# Altium schematic symbol library SCH - DRIVER - LED - TI LM3444_D_8.SchLib: 1 symbol
Pins are listed as number, name and electrical type; pins without a type are passive.

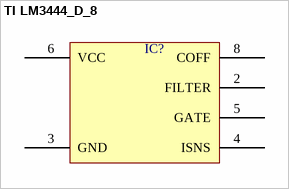
[diagram p0: symbol TI LM3444_D_8]

## TI LM3444_D_8
designator IC?  (value not drawn)
pins: 2 FILTER, 3 GND, 4 ISNS, 5 GATE, 6 VCC, 8 COFF